# EAGLE library part CONN-6 (library vincent)
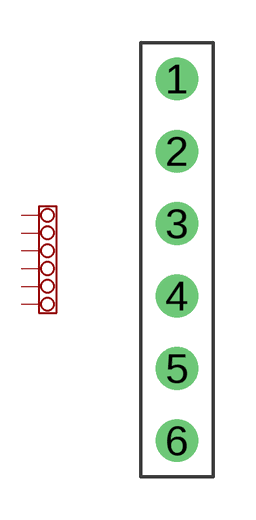
[diagram p1: symbol with the pads of CONN-6-2.54; footprint CONN-6-2.54]

Designator prefix -

## CONN-6  [CONN-6-2.54]
1  P$1
2  P$2
3  P$3
4  P$4
5  P$5
6  P$6

## Footprint CONN-6-2.54 (pad centres in mm)
drill 0.8 pad 1.5: 1 0,6.35; 2 0,3.81; 3 0,1.27; 4 0,-1.27; 5 0,-3.81; 6 0,-6.35